# Altium integrated library NSC Amplifier.IntLib: 737 symbols (part 11 of 19)
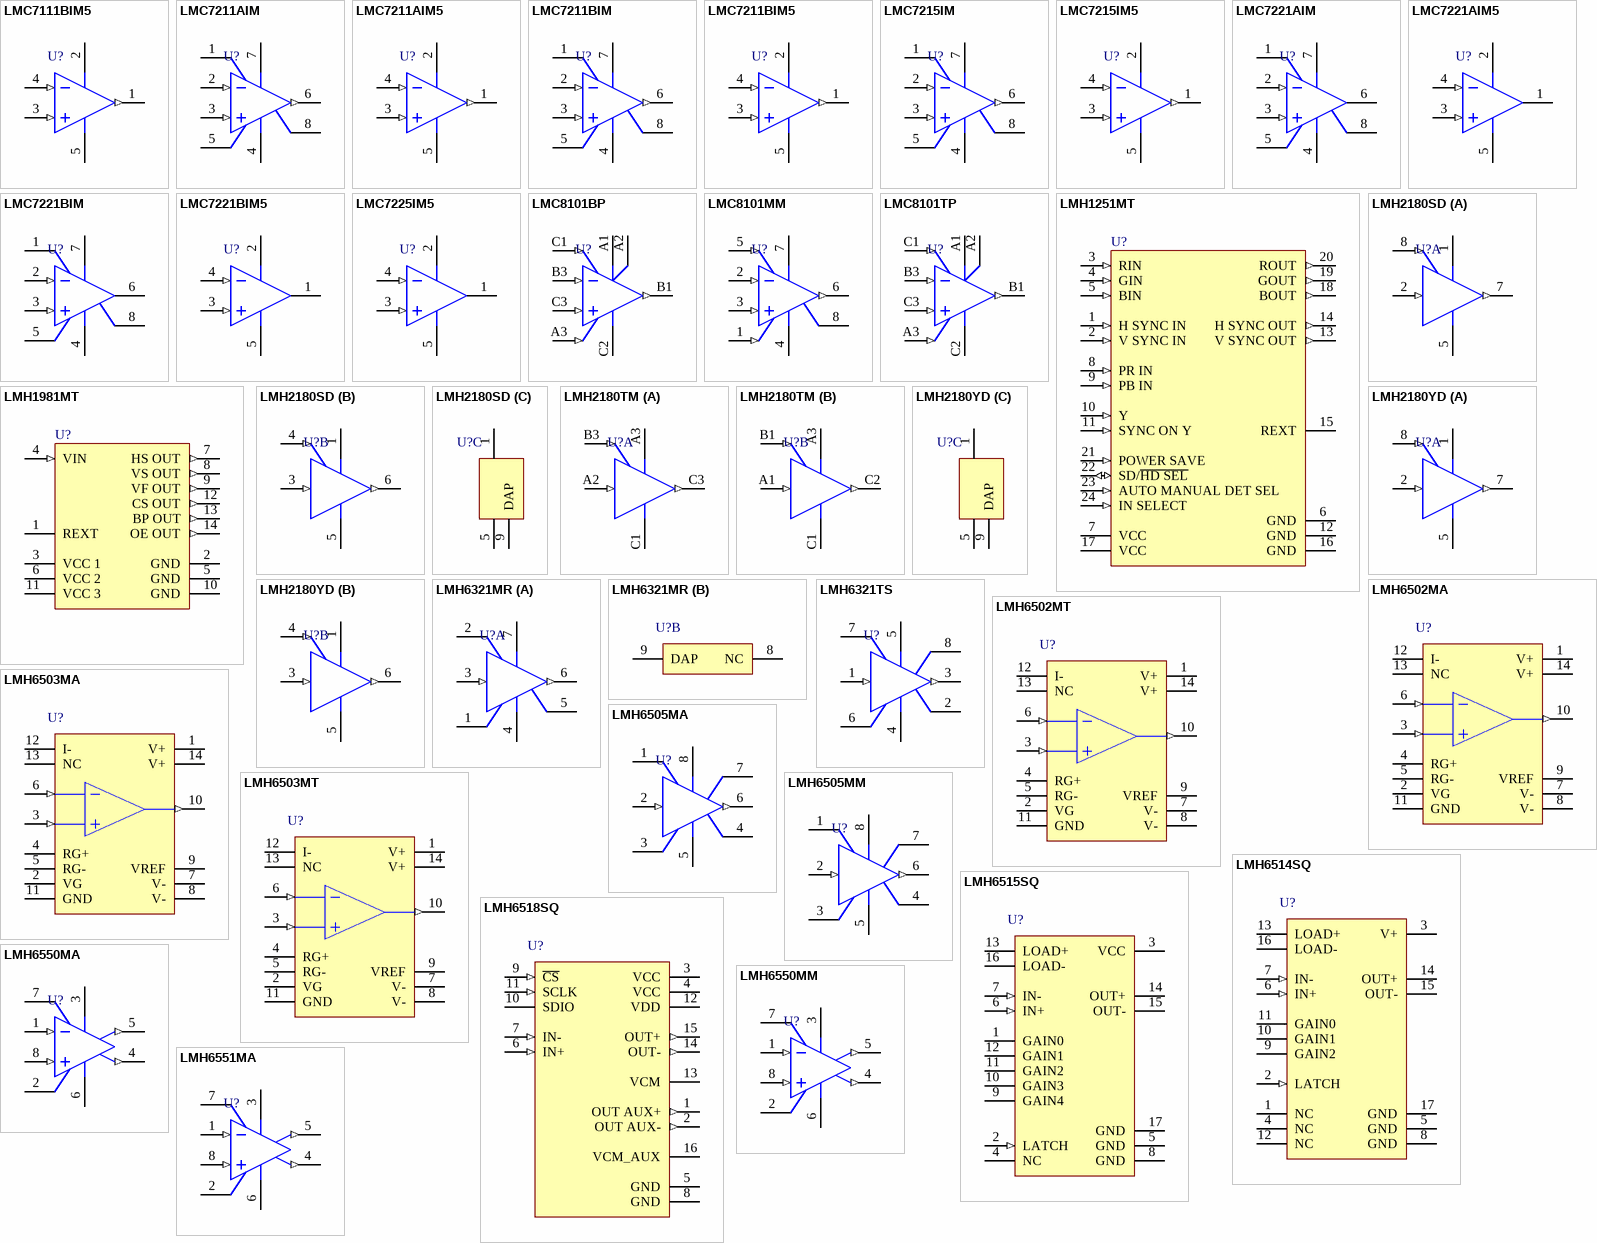
[diagram p49: symbols LMC7111BIM5 to LMH6551MA]

## LMC7221BIM
designator U?
Tiny CMOS Comparator with Rail-to-Rail Input and Open Drain Output; PartNumber: LMC7221BIM; Manufacturer: National Semiconductor; CompType: Amplifiers; PackageTopMarking: NSZXTT*LMC72*21BIM; PowerWise: N; Published: 4-Dec-2008; LatestRevisionDate: 13-Jan-2009; LatestRevisionNote: Sim Model Added.; DatasheetVersion: Sep-2006; PackageVersion: revL, Sep-2006; PackageReference: M08A; Publisher: Altium Limited; PackageDescription: SOIC Narrow, 4.9 x 3.9 x 1.45mm, 8 Lead, 1.27mm Pitch; RoHS: O; PinCount: 8; DigiKeyPartNumber: LMC7221BIM5CT-ND; Code_JEDEC: MS-012-AA; Code_IPC: SOIC127P600-8; ComponentLink1Description: LMC7221 Datasheet; ComponentLink1URL: http://www.national.com/ds/LM/LMC7221.pdf; ComponentLink2Description: LMC7221 Web Page; ComponentLink2URL: http://www.national.com/pf/LM/LMC7221.html; ComponentLink3Description: M08A Package Page; ComponentLink3URL: http://www.national.com/packaging/folders/m08a.html
footprint M08A_N (SOIC, 8-Leads, Body 4.9x3.9mm, Pitch 1.27mm, IPC Medium Density)
footprint M08A_L (SOIC, 8-Leads, Body 4.9x3.9mm, Pitch 1.27mm, IPC High Density)
footprint M08A_M (SOIC, 8-Leads, Body 4.9x3.9mm, Pitch 1.27mm, IPC Low Density)
simulation model LMC7221B (SUBCKT)
pins: 1 NC, 2 IN- (in), 3 IN+ (in), 4 V- (power), 5 NC, 6 OUT (oc), 7 V+ (power), 8 NC

## LMC7221BIM5
designator U?
Tiny CMOS Comparator with Rail-to-Rail Input and Open Drain Output; PartNumber: LMC7221BIM5; Manufacturer: National Semiconductor; CompType: Amplifiers; PackageTopMarking: C01B*XTT; PowerWise: N; Published: 4-Dec-2008; LatestRevisionDate: 13-Jan-2009; LatestRevisionNote: Sim Model Added.; DatasheetVersion: Sep-2006; PackageVersion: revD, Aug-2008; PackageReference: MF05A; Publisher: Altium Limited; PackageDescription: Molded SOT-23, .115 x .063 x .040 in Body, 5 Lead, .0375 in Pitch; RoHS: O; PinCount: 5; DigiKeyPartNumber: LMC7221BIM5CT-ND; Code_IPC: SOT23-5; ComponentLink1Description: LMC7221 Datasheet; ComponentLink1URL: http://www.national.com/ds/LM/LMC7221.pdf; ComponentLink2Description: LMC7221 Web Page; ComponentLink2URL: http://www.national.com/pf/LM/LMC7221.html; ComponentLink3Description: MF05A Package Page; ComponentLink3URL: http://www.national.com/packaging/folders/mf05a.html
footprint MF05A_N (SOT23, 5-Leads, Body 2.9x1.6mm, Pitch 0.95mm, Lead Span 2.8mm, IPC Medium Density)
footprint MF05A_L (SOT23, 5-Leads, Body 2.9x1.6mm, Pitch 0.95mm, Lead Span 2.8mm, IPC High Density)
footprint MF05A_M (SOT23, 5-Leads, Body 2.9x1.6mm, Pitch 0.95mm, Lead Span 2.8mm, IPC Low Density)
simulation model LMC7221B (SUBCKT)
pins: 1 OUT (oc), 2 V+ (power), 3 IN+ (in), 4 IN- (in), 5 V- (power)

## LMC7225IM5
designator U?
Micro-Power, Rail-to-Rail CMOS Comparators with Open-Drain/Push-Pull Outputs and TinyPak Package; PartNumber: LMC7225IM5; Manufacturer: National Semiconductor; CompType: Amplifiers; PackageTopMarking: C03B*XTT; PowerWise: Y; Published: 4-Dec-2008; LatestRevisionDate: 13-Jan-2009; LatestRevisionNote: Sim Model Added.; DatasheetVersion: Sep-2006; PackageVersion: revD, Aug-2008; PackageReference: MF05A; Publisher: Altium Limited; PackageDescription: Molded SOT-23, .115 x .063 x .040 in Body, 5 Lead, .0375 in Pitch; RoHS: O; PinCount: 5; DigiKeyPartNumber: LMC7225IM5CT-ND; Code_IPC: SOT23-5; ComponentLink1Description: LMC7225 Datasheet; ComponentLink1URL: http://www.national.com/ds/LM/LMC7225.pdf; ComponentLink2Description: LMC7225 Web Page; ComponentLink2URL: http://www.national.com/pf/LM/LMC7225.html; ComponentLink3Description: MF05A Package Page; ComponentLink3URL: http://www.national.com/packaging/folders/mf05a.html
footprint MF05A_N (SOT23, 5-Leads, Body 2.9x1.6mm, Pitch 0.95mm, Lead Span 2.8mm, IPC Medium Density)
footprint MF05A_L (SOT23, 5-Leads, Body 2.9x1.6mm, Pitch 0.95mm, Lead Span 2.8mm, IPC High Density)
footprint MF05A_M (SOT23, 5-Leads, Body 2.9x1.6mm, Pitch 0.95mm, Lead Span 2.8mm, IPC Low Density)
simulation model LMC7225 (SUBCKT)
pins: 1 OUT (oc), 2 V+ (power), 3 IN+ (in), 4 IN- (in), 5 V- (power)

## LMC8101BP
designator U?
Rail-to-Rail Input and Output, 2.7V Op Amp in micro SMD package with Shutdown; PartNumber: LMC8101BP; Manufacturer: National Semiconductor; CompType: Amplifiers; PackageTopMarking: XVA*I 2; Published: 4-Dec-2008; LatestRevisionDate: 13-Jan-2009; LatestRevisionNote: Sim Model Added.; DatasheetVersion: May-2004; PackageVersion: revC, Feb-2002; PackageReference: BPA08FFB; Publisher: Altium Limited; PackageDescription: Micro SMD, 8 Bump, 0.5mm Pitch; RoHS: N; PinCount: 8; DigiKeyPartNumber: LMC8101BPCT-ND; Code_JEDEC: MO-211-BC; ComponentLink1Description: LMC8101 Datasheet; ComponentLink1URL: http://www.national.com/ds/LM/LMC8101.pdf; ComponentLink2Description: LMC8101 Web Page; ComponentLink2URL: http://www.national.com/pf/LM/LMC8101.html; ComponentLink3Description: BPA08FFB Package Page; ComponentLink3URL: http://www.national.com/packaging/folders/bpa08ffb.html
footprint BPA08FFB (Micro SMD, 8-Leads, Body 1.41x1.41mm, Pitch 0.5mm, NSC Recommended)
simulation model LMC8101 (SUBCKT)
pins: A1 V+ (power), A2 V+ (power), A3 SL (in), B1 OUT (out), B3 IN- (in), C1 SD (in), C2 V- (power), C3 IN+ (in)

## LMC8101MM
designator U?
Rail-to-Rail Input and Output, 2.7V Op Amp in micro SMD package with Shutdown; PartNumber: LMC8101MM; Manufacturer: National Semiconductor; CompType: Amplifiers; PackageTopMarking: ZXTT*A11; PowerWise: N; Published: 4-Dec-2008; LatestRevisionDate: 13-Jan-2009; LatestRevisionNote: Sim Model Added.; DatasheetVersion: May-2004; PackageVersion: revF, Apr-2008; PackageReference: MUA08A; Publisher: Altium Limited; PackageDescription: MINI SOIC, .118 x .118 x .034in, 8 Lead, .0256in Pitch; RoHS: O; PinCount: 8; DigiKeyPartNumber: LMC8101MMCT-ND; Code_JEDEC: MO-187-AA; ComponentLink1Description: LMC8101 Datasheet; ComponentLink1URL: http://www.national.com/ds/LM/LMC8101.pdf; ComponentLink2Description: LMC8101 Web Page; ComponentLink2URL: http://www.national.com/pf/LM/LMC8101.html; ComponentLink3Description: MUA08A Package Page; ComponentLink3URL: http://www.national.com/packaging/folders/mua08a.html
footprint MUA08A_N (TSOP, 8-Leads, Body 3x3mm, Pitch 0.65mm, IPC Medium Density)
footprint MUA08A_L (TSOP, 8-Leads, Body 3x3mm, Pitch 0.65mm, IPC High Density)
footprint MUA08A_M (TSOP, 8-Leads, Body 3x3mm, Pitch 0.65mm, IPC Low Density)
simulation model LMC8101 (SUBCKT)
pins: 1 SL (in), 2 IN- (in), 3 IN+ (in), 4 V- (power), 5 SD (in), 6 OUT (out), 7 V+ (power), 8 NC

## LMC8101TP
designator U?
Rail-to-Rail Input and Output, 2.7V Op Amp in micro SMD package with Shutdown; PartNumber: LMC8101TP; Manufacturer: National Semiconductor; CompType: Amplifiers; PackageTopMarking: XVA*I 08; PowerWise: N; Published: 4-Dec-2008; LatestRevisionDate: 13-Jan-2009; LatestRevisionNote: Sim Model Added.; DatasheetVersion: May-2004; PackageVersion: revA, Mar-2002; PackageReference: TPA08FFA; Publisher: Altium Limited; PackageDescription: Thin Micro SMD, 8 Bump, 0.5mm Pitch; RoHS: Y; PinCount: 8; DigiKeyPartNumber: LMC8101TPCT-ND; Code_JEDEC: MO-211-BC; ComponentLink1Description: LMC8101 Datasheet; ComponentLink1URL: http://www.national.com/ds/LM/LMC8101.pdf; ComponentLink2Description: LMC8101 Web Page; ComponentLink2URL: http://www.national.com/pf/LM/LMC8101.html; ComponentLink3Description: TPA08FFA Package Page; ComponentLink3URL: http://www.national.com/packaging/folders/tpa08ffa.html
footprint TPA08FFA (Micro SMD, 8-Leads, Body 1.41x1.41mm, Pitch 0.5mm, NSC Recommended)
simulation model LMC8101 (SUBCKT)
pins: A1 V+ (power), A2 V+ (power), A3 SL (in), B1 OUT (out), B3 IN- (in), C1 SD (in), C2 V- (power), C3 IN+ (in)

## LMH1251MT
designator U?
YPBPR to RGBHV Converter and 2:1 Video Switch; PartNumber: LMH1251MT; Manufacturer: National Semiconductor; CompType: Amplifiers; PackageTopMarking: NSUZXYTT*LMH1251*MT; PowerWise: N; Published: 4-Dec-2008; DatasheetVersion: Jul-2008; PackageVersion: revE, Mar-2003; PackageReference: MTC24; Publisher: Altium Limited; PackageDescription: Molded TSSOP, Jedec, 7.8 x 4.4 x 0.9mm Body, 24 Lead, 0.65mm Pitch; RoHS: O; PinCount: 24; DigiKeyPartNumber: LMH1251MT-ND; Code_JEDEC: MO-153-AD; ComponentLink1Description: LMH1251 Datasheet; ComponentLink1URL: http://www.national.com/ds/LM/LMH1251.pdf; ComponentLink2Description: LMH1251 Web Page; ComponentLink2URL: http://www.national.com/pf/LM/LMH1251.html; ComponentLink3Description: MTC24 Package Page; ComponentLink3URL: http://www.national.com/packaging/folders/mtc24.html
footprint MTC24_N (TSOP, 24-Leads, Body 7.8x4.4mm, Pitch 0.65mm, IPC Medium Density)
footprint MTC24_L (TSOP, 24-Leads, Body 7.8x4.4mm, Pitch 0.65mm, IPC High Density)
footprint MTC24_M (TSOP, 24-Leads, Body 7.8x4.4mm, Pitch 0.65mm, IPC Low Density)
pins: 1 H SYNC IN (in), 2 V SYNC IN (in), 3 RIN (in), 4 GIN (in), 5 BIN (in), 6 GND (power), 7 VCC (power), 8 PR IN (in), 9 PB IN (in), 10 Y (in), 11 SYNC ON Y (in), 12 GND (power), 13 V SYNC OUT (out), 14 H SYNC OUT (out), 15 REXT, 16 GND (power), 17 VCC (power), 18 BOUT (out), 19 GOUT (out), 20 ROUT (out), 21 POWER SAVE (in), 22 SD/~{HD SEL} (io), 23 AUTO MANUAL DET SEL (in), 24 IN SELECT (in)

## LMH1981MT
designator U?
Multi-Format Video Sync Separator; PartNumber: LMH1981MT; Manufacturer: National Semiconductor; CompType: Amplifiers; PackageTopMarking: NSUZXYTT*LMH19*81MT; PowerWise: N; Published: 4-Dec-2008; DatasheetVersion: Jul-2007; PackageVersion: revD, Jun-2003; PackageReference: MTC14; Publisher: Altium Limited; PackageDescription: Molded TSSOP, JEDEC, 5 x 4.4 x 0.9mm Body, 14 Lead, 0.65mm Pitch; RoHS: Y; PinCount: 14; DigiKeyPartNumber: LMH1981MT-ND; Code_JEDEC: MO-153-AB-1; ComponentLink1Description: LMH1981 Datasheet; ComponentLink1URL: http://www.national.com/ds/LM/LMH1981.pdf; ComponentLink2Description: LMH1981 Web Page; ComponentLink2URL: http://www.national.com/pf/LM/LMH1981.html; ComponentLink3Description: MTC14 Package Page; ComponentLink3URL: http://www.national.com/packaging/folders/mtc14.html
footprint MTC14_N (TSOP, 14-Leads, Body 5x4.4mm, Pitch 0.65mm, IPC Medium Density)
footprint MTC14_L (TSOP, 14-Leads, Body 5x4.4mm, Pitch 0.65mm, IPC High Density)
footprint MTC14_M (TSOP, 14-Leads, Body 5x4.4mm, Pitch 0.65mm, IPC Low Density)
pins: 1 REXT, 2 GND (power), 3 VCC 1 (power), 4 VIN (in), 5 GND (power), 6 VCC 2 (power), 7 HS OUT (out), 8 VS OUT (out), 9 VF OUT (out), 10 GND (power), 11 VCC 3 (power), 12 CS OUT (out), 13 BP OUT (out), 14 OE OUT (out)

## LMH2180SD
designator U?
75 MHz Dual Clock Buffer; PartNumber: LMH2180SD; Manufacturer: National Semiconductor; CompType: Amplifiers; PackageTopMarking: ZXYTT*2180S; PowerWise: N; Published: 4-Dec-2008; DatasheetVersion: Aug-2008; PackageVersion: revA, Aug-2003; PackageReference: SDA08A; Publisher: Altium Limited; PackageDescription: LLP, Plastic, Dual, 3 x 3 x 0.8mm Body, 8 Lead, 0.5mm Pitch, No Pullback; RoHS: Y; PinCount: 8; DigiKeyPartNumber: LMH2180SDEVAL-ND; ComponentLink1Description: LMH2180 Datasheet; ComponentLink1URL: http://www.national.com/ds/LM/LMH2180.pdf; ComponentLink2Description: LMH2180 Web Page; ComponentLink2URL: http://www.national.com/pf/LM/LMH2180.html; ComponentLink3Description: SDA08A Package Page; ComponentLink3URL: http://www.national.com/packaging/folders/sda08a.html
footprint SDA08A (SON, 8-Leads, Body 3x3mm, Pitch 0.5mm, NSC Recommended)
pins on every part: 1 VDD (power), 5 VSS (power)
part A pins: 2 IN1 (in), 7 OUT1 (out), 8 EN1 (in)
part B pins: 3 IN2 (in), 4 EN2 (in), 6 OUT2 (out)
part C pins: 9 DAP

## LMH2180TM
designator U?
75 MHz Dual Clock Buffer; PartNumber: LMH2180TM; Manufacturer: National Semiconductor; CompType: Amplifiers; PackageTopMarking: XVA*I A; PowerWise: N; Published: 4-Dec-2008; DatasheetVersion: Aug-2008; PackageVersion: revA; PackageReference: TMD08CCA; Publisher: Altium Limited; PackageDescription: Thin Micro SMD, 8 Bump, 0.4mm Pitch; RoHS: Y; PinCount: 8; ComponentLink1Description: LMH2180 Datasheet; ComponentLink1URL: http://www.national.com/ds/LM/LMH2180.pdf; ComponentLink2Description: LMH2180 Web Page; ComponentLink2URL: http://www.national.com/pf/LM/LMH2180.html; ComponentLink3Description: TMD08CCA Package Page; ComponentLink3URL: http://www.national.com/packaging/folders/tmd08cca.html
footprint TMD08CCA (Micro SMD, 8-Leads, Body 1.22x1.22mm, Pitch 0.4mm, NSC Recommended)
pins on every part: A3 VDD (power), C1 VSS (power)
part A pins: A2 IN1 (in), B3 EN1 (in), C3 OUT1 (out)
part B pins: A1 IN2 (in), B1 EN2 (in), C2 OUT2 (out)

## LMH2180YD
designator U?
75 MHz Dual Clock Buffer; PartNumber: LMH2180YD; Manufacturer: National Semiconductor; CompType: Amplifiers; PackageTopMarking: ZXYTT*2180Y; PowerWise: N; Published: 4-Dec-2008; DatasheetVersion: Aug-2008; PackageVersion: revB, Jun-2005; PackageReference: YDA08A; Publisher: Altium Limited; PackageDescription: LLP, Plastic, Dual, 3 x 3 x 0.8mm, 8 Lead, 0.5mm Pitch, Solder Bump; RoHS: Y; PinCount: 8; DigiKeyPartNumber: LMH2180YD-ND; ComponentLink1Description: LMH2180 Datasheet; ComponentLink1URL: http://www.national.com/ds/LM/LMH2180.pdf; ComponentLink2Description: LMH2180 Web Page; ComponentLink2URL: http://www.national.com/pf/LM/LMH2180.html; ComponentLink3Description: YDA08A Package Page; ComponentLink3URL: http://www.national.com/packaging/folders/yda08a.html
footprint YDA08A (PSON, 8-Leads, Body 3x3mm, Pitch 0.5mm, NSC Recommended)
pins on every part: 1 VDD (power), 5 VSS (power)
part A pins: 2 IN1 (in), 7 OUT1 (out), 8 EN1 (in)
part B pins: 3 IN2 (in), 4 EN2 (in), 6 OUT2 (out)
part C pins: 9 DAP

## LMH6321MR
designator U?
300 mA High Speed Buffer with Adjustable Current Limit; PartNumber: LMH6321MR; Manufacturer: National Semiconductor; CompType: Amplifiers; PackageTopMarking: NSXYTT*LMH63*21MR; PowerWise: N; Published: 4-Dec-2008; LatestRevisionDate: 13-Jan-2009; LatestRevisionNote: Sim Model Added.; DatasheetVersion: Apr-2007; PackageVersion: revD, Dec-2007; PackageReference: MRA08A; Publisher: Altium Limited; PackageDescription: Molded, PSOP .193 x .154 x .058in, 8 Lead, .050in Pitch; RoHS: Y; PinCount: 8; DigiKeyPartNumber: LMH6321MR-ND; Code_JEDEC: MS-012-AA; ComponentLink1Description: LMH6321 Datasheet; ComponentLink1URL: http://www.national.com/ds/LM/LMH6321.pdf; ComponentLink2Description: LMH6321 Web Page; ComponentLink2URL: http://www.national.com/pf/LM/LMH6321.html; ComponentLink3Description: MRA08A Package Page; ComponentLink3URL: http://www.national.com/packaging/folders/mra08a.html
footprint MRA08A_N (SOIC, 8-Leads, Body 4.9x3.9mm, Pitch 1.27mm, Exposed Pad, IPC Medium Density)
footprint MRA08A_L (SOIC, 8-Leads, Body 4.9x3.9mm, Pitch 1.27mm, Exposed Pad, IPC High Density)
footprint MRA08A_M (SOIC, 8-Leads, Body 4.9x3.9mm, Pitch 1.27mm, Exposed Pad, IPC Low Density)
simulation model LMH6321 (SUBCKT)
part A pins: 1 EF, 2 CL, 3 IN (in), 4 V- (power), 5 GND (power), 6 OUT (out), 7 V+ (power)
part B pins: 8 NC, 9 DAP

## LMH6321TS
designator U?
300 mA High Speed Buffer with Adjustable Current Limit; PartNumber: LMH6321TS; Manufacturer: National Semiconductor; CompType: Amplifiers; PackageTopMarking: NSUZXYTTE#*LMH6321TS; PowerWise: N; Published: 4-Dec-2008; LatestRevisionDate: 30-Oct-2009; LatestRevisionNote: Pin 8 name changed from DAP to TAB.; DatasheetVersion: Apr-2007; PackageVersion: revE, Jul-2003; PackageReference: TS7B; Publisher: Altium Limited; PackageDescription: TO-263, Molded, .400 x .390 x .180in Body, 7 Lead, .050in Pitch, Surface Mount; RoHS: Y; PinCount: 7; DigiKeyPartNumber: LMH6321TS-ND; Code_JEDEC: MO-169-AC; ComponentLink1Description: LMH6321 Datasheet; ComponentLink1URL: http://www.national.com/ds/LM/LMH6321.pdf; ComponentLink2Description: LMH6321 Web Page; ComponentLink2URL: http://www.national.com/pf/LM/LMH6321.html; ComponentLink3Description: TS7B Package Page; ComponentLink3URL: http://www.national.com/packaging/folders/ts7b.html
footprint TS7B_N (D2-PAK, 8-Leads, Body 8.6x10.2mm, Pitch 1.27mm, Lead Span 14.1mm, IPC Medium Density)
footprint TS7B_L (D2-PAK, 8-Leads, Body 8.6x10.2mm, Pitch 1.27mm, Lead Span 14.1mm, IPC High Density)
footprint TS7B_M (D2-PAK, 8-Leads, Body 8.6x10.2mm, Pitch 1.27mm, Lead Span 14.1mm, IPC Low Density)
simulation model LMH6321 (SUBCKT)
pins: 1 IN (in), 2 GND (power), 3 OUT (out), 4 V- (power), 5 V+ (power), 6 EF, 7 CL, 8 TAB

## LMH6502MA
designator U?
Wideband, Low Power, Linear-in-dB Variable Gain Amplifier; PartNumber: LMH6502MA; Manufacturer: National Semiconductor; CompType: Amplifiers; PackageTopMarking: NSUZXYTT*LMH6502MA; PowerWise: N; Published: 4-Dec-2008; LatestRevisionDate: 13-Jan-2009; LatestRevisionNote: Sim Model Added.; DatasheetVersion: Jun-2004; PackageVersion: revJ, Jan-1996; PackageReference: M14A; Publisher: Altium Limited; PackageDescription: Molded Package S.O., .150in Wide, 14 Lead; RoHS: O; PinCount: 14; DigiKeyPartNumber: LMH6502MA-ND; Code_JEDEC: MS-012AB; Code_IPC: SOIC127P600-14; ComponentLink1Description: LMH6502 Datasheet; ComponentLink1URL: http://www.national.com/ds/LM/LMH6502.pdf; ComponentLink2Description: LMH6502 Web Page; ComponentLink2URL: http://www.national.com/pf/LM/LMH6502.html; ComponentLink3Description: M14A Package Page; ComponentLink3URL: http://www.national.com/packaging/folders/m14a.html
footprint M14A_N (SOIC, 14-Leads, Body 8.6x3.9mm, Pitch 1.27mm, IPC Medium Density)
footprint M14A_L (SOIC, 14-Leads, Body 8.6x3.9mm, Pitch 1.27mm, IPC High Density)
footprint M14A_M (SOIC, 14-Leads, Body 8.6x3.9mm, Pitch 1.27mm, IPC Low Density)
simulation model LMH6502 (SUBCKT)
pins: 1 V+ (power), 2 VG, 3 VIN+ (in), 4 RG+, 5 RG-, 6 VIN- (in), 7 V- (power), 8 V- (power), 9 VREF, 10 VOUT (out), 11 GND (power), 12 I-, 13 NC, 14 V+ (power)

## LMH6502MT
designator U?
Wideband, Low Power, Linear-in-dB Variable Gain Amplifier; PartNumber: LMH6502MT; Manufacturer: National Semiconductor; CompType: Amplifiers; PackageTopMarking: NSUZXYTT*LMH65*02MT; PowerWise: N; Published: 4-Dec-2008; LatestRevisionDate: 13-Jan-2009; LatestRevisionNote: Sim Model Added.; DatasheetVersion: Jun-2004; PackageVersion: revD, Jun-2003; PackageReference: MTC14; Publisher: Altium Limited; PackageDescription: Molded TSSOP, JEDEC, 5 x 4.4 x 0.9mm Body, 14 Lead, 0.65mm Pitch; RoHS: Y; PinCount: 14; DigiKeyPartNumber: LMH6502MT-ND; Code_JEDEC: MO-153-AB-1; ComponentLink1Description: LMH6502 Datasheet; ComponentLink1URL: http://www.national.com/ds/LM/LMH6502.pdf; ComponentLink2Description: LMH6502 Web Page; ComponentLink2URL: http://www.national.com/pf/LM/LMH6502.html; ComponentLink3Description: MTC14 Package Page; ComponentLink3URL: http://www.national.com/packaging/folders/mtc14.html
footprint MTC14_N (TSOP, 14-Leads, Body 5x4.4mm, Pitch 0.65mm, IPC Medium Density)
footprint MTC14_L (TSOP, 14-Leads, Body 5x4.4mm, Pitch 0.65mm, IPC High Density)
footprint MTC14_M (TSOP, 14-Leads, Body 5x4.4mm, Pitch 0.65mm, IPC Low Density)
simulation model LMH6502 (SUBCKT)
pins: 1 V+ (power), 2 VG, 3 VIN+ (in), 4 RG+, 5 RG-, 6 VIN- (in), 7 V- (power), 8 V- (power), 9 VREF, 10 VOUT (out), 11 GND (power), 12 I-, 13 NC, 14 V+ (power)

## LMH6503MA
designator U?
Wideband, Low Power, Linear Variable Gain Amplifier; PartNumber: LMH6503MA; Manufacturer: National Semiconductor; CompType: Amplifiers; PackageTopMarking: NSUZXYTT*LMH6503MA; PowerWise: N; Published: 4-Dec-2008; LatestRevisionDate: 13-Jan-2009; LatestRevisionNote: Sim Model Added.; DatasheetVersion: Jun-2004; PackageVersion: revJ, Jan-1996; PackageReference: M14A; Publisher: Altium Limited; PackageDescription: Molded Package S.O., .150in Wide, 14 Lead; RoHS: O; PinCount: 14; DigiKeyPartNumber: LMH6503MA-ND; Code_JEDEC: MS-012AB; Code_IPC: SOIC127P600-14; ComponentLink1Description: LMH6503 Datasheet; ComponentLink1URL: http://www.national.com/ds/LM/LMH6503.pdf; ComponentLink2Description: LMH6503 Web Page; ComponentLink2URL: http://www.national.com/pf/LM/LMH6503.html; ComponentLink3Description: M14A Package Page; ComponentLink3URL: http://www.national.com/packaging/folders/m14a.html
footprint M14A_N (SOIC, 14-Leads, Body 8.6x3.9mm, Pitch 1.27mm, IPC Medium Density)
footprint M14A_L (SOIC, 14-Leads, Body 8.6x3.9mm, Pitch 1.27mm, IPC High Density)
footprint M14A_M (SOIC, 14-Leads, Body 8.6x3.9mm, Pitch 1.27mm, IPC Low Density)
simulation model LMH6503 (SUBCKT)
pins: 1 V+ (power), 2 VG, 3 VIN+ (in), 4 RG+, 5 RG-, 6 VIN- (in), 7 V- (power), 8 V- (power), 9 VREF, 10 VOUT (out), 11 GND (power), 12 I-, 13 NC, 14 V+ (power)

## LMH6503MT
designator U?
Wideband, Low Power, Linear Variable Gain Amplifier; PartNumber: LMH6503MT; Manufacturer: National Semiconductor; CompType: Amplifiers; PackageTopMarking: NSUZXYTT*LMH65*03MT; PowerWise: N; Published: 4-Dec-2008; LatestRevisionDate: 13-Jan-2009; LatestRevisionNote: Sim Model Added.; DatasheetVersion: Jun-2004; PackageVersion: revD, Jun-2003; PackageReference: MTC14; Publisher: Altium Limited; PackageDescription: Molded TSSOP, JEDEC, 5 x 4.4 x 0.9mm Body, 14 Lead, 0.65mm Pitch; RoHS: Y; PinCount: 14; DigiKeyPartNumber: LMH6503MT-ND; Code_JEDEC: MO-153-AB-1; ComponentLink1Description: LMH6503 Datasheet; ComponentLink1URL: http://www.national.com/ds/LM/LMH6503.pdf; ComponentLink2Description: LMH6503 Web Page; ComponentLink2URL: http://www.national.com/pf/LM/LMH6503.html; ComponentLink3Description: MTC14 Package Page; ComponentLink3URL: http://www.national.com/packaging/folders/mtc14.html
footprint MTC14_N (TSOP, 14-Leads, Body 5x4.4mm, Pitch 0.65mm, IPC Medium Density)
footprint MTC14_L (TSOP, 14-Leads, Body 5x4.4mm, Pitch 0.65mm, IPC High Density)
footprint MTC14_M (TSOP, 14-Leads, Body 5x4.4mm, Pitch 0.65mm, IPC Low Density)
simulation model LMH6503 (SUBCKT)
pins: 1 V+ (power), 2 VG, 3 VIN+ (in), 4 RG+, 5 RG-, 6 VIN- (in), 7 V- (power), 8 V- (power), 9 VREF, 10 VOUT (out), 11 GND (power), 12 I-, 13 NC, 14 V+ (power)

## LMH6505MA
designator U?
Wideband, Low Power, Linear-in-dB, Variable Gain Amplifier; PartNumber: LMH6505MA; Manufacturer: National Semiconductor; CompType: Amplifiers; PackageTopMarking: NSZXTT*LMH65*05MA; PowerWise: Y; Published: 4-Dec-2008; LatestRevisionDate: 13-Jan-2009; LatestRevisionNote: Sim Model Added.; DatasheetVersion: Dec-2007; PackageVersion: revL, Sep-2006; PackageReference: M08A; Publisher: Altium Limited; PackageDescription: SOIC Narrow, 4.9 x 3.9 x 1.45mm, 8 Lead, 1.27mm Pitch; RoHS: Y; PinCount: 8; DigiKeyPartNumber: LMH6505MA-ND; Code_JEDEC: MS-012-AA; Code_IPC: SOIC127P600-8; ComponentLink1Description: LMH6505 Datasheet; ComponentLink1URL: http://www.national.com/ds/LM/LMH6505.pdf; ComponentLink2Description: LMH6505 Web Page; ComponentLink2URL: http://www.national.com/pf/LM/LMH6505.html; ComponentLink3Description: M08A Package Page; ComponentLink3URL: http://www.national.com/packaging/folders/m08a.html
footprint M08A_N (SOIC, 8-Leads, Body 4.9x3.9mm, Pitch 1.27mm, IPC Medium Density)
footprint M08A_L (SOIC, 8-Leads, Body 4.9x3.9mm, Pitch 1.27mm, IPC High Density)
footprint M08A_M (SOIC, 8-Leads, Body 4.9x3.9mm, Pitch 1.27mm, IPC Low Density)
simulation model LMH6505 (SUBCKT)
pins: 1 VG, 2 VIN (in), 3 RG, 4 GND (power), 5 V- (power), 6 VOUT (out), 7 I-, 8 V+ (power)

## LMH6505MM
designator U?
Wideband, Low Power, Linear-in-dB, Variable Gain Amplifier; PartNumber: LMH6505MM; Manufacturer: National Semiconductor; CompType: Amplifiers; PackageTopMarking: ZXTT*AZ2A; PowerWise: Y; Published: 4-Dec-2008; LatestRevisionDate: 13-Jan-2009; LatestRevisionNote: Sim Model Added.; DatasheetVersion: Dec-2007; PackageVersion: revF, Apr-2008; PackageReference: MUA08A; Publisher: Altium Limited; PackageDescription: MINI SOIC, .118 x .118 x .034in, 8 Lead, .0256in Pitch; RoHS: Y; PinCount: 8; DigiKeyPartNumber: LMH6505MMCT-ND; Code_JEDEC: MO-187-AA; ComponentLink1Description: LMH6505 Datasheet; ComponentLink1URL: http://www.national.com/ds/LM/LMH6505.pdf; ComponentLink2Description: LMH6505 Web Page; ComponentLink2URL: http://www.national.com/pf/LM/LMH6505.html; ComponentLink3Description: MUA08A Package Page; ComponentLink3URL: http://www.national.com/packaging/folders/mua08a.html
footprint MUA08A_N (TSOP, 8-Leads, Body 3x3mm, Pitch 0.65mm, IPC Medium Density)
footprint MUA08A_L (TSOP, 8-Leads, Body 3x3mm, Pitch 0.65mm, IPC High Density)
footprint MUA08A_M (TSOP, 8-Leads, Body 3x3mm, Pitch 0.65mm, IPC Low Density)
simulation model LMH6505 (SUBCKT)
pins: 1 VG, 2 VIN (in), 3 RG, 4 GND (power), 5 V- (power), 6 VOUT (out), 7 I-, 8 V+ (power)

## LMH6514SQ
designator U?
600 MHz, Digital Controlled, Variable Gain Amplifier; PartNumber: LMH6514SQ; Manufacturer: National Semiconductor; CompType: Amplifiers; PackageTopMarking: NS*UZXYTT*L6514SQ; PowerWise: Y; Published: 4-Dec-2008; DatasheetVersion: Jan-2008; PackageVersion: revA, Oct-2003; PackageReference: SQA16A; Publisher: Altium Limited; PackageDescription: LLP, Plastic, Quad, 4 x 4 x 0.8mm Body, 16 Lead, 0.5mm Pitch, No Pullback; RoHS: Y; PinCount: 16; DigiKeyPartNumber: LMH6514SQE-ND; ComponentLink1Description: LMH6514 Datasheet; ComponentLink1URL: http://www.national.com/ds/LM/LMH6514.pdf; ComponentLink2Description: LMH6514 Web Page; ComponentLink2URL: http://www.national.com/pf/LM/LMH6514.html; ComponentLink3Description: SQA16A Package Page; ComponentLink3URL: http://www.national.com/packaging/folders/sqa16a.html
footprint SQA16A (QFN, 16-Leads, Body 4x4mm, Pitch 0.5mm, NSC Recommended)
pins: 1 NC, 2 LATCH (in), 3 V+ (power), 4 NC, 5 GND (power), 6 IN+ (in), 7 IN- (in), 8 GND (power), 9 GAIN2, 10 GAIN1, 11 GAIN0, 12 NC, 13 LOAD+, 14 OUT+ (oc), 15 OUT- (oc), 16 LOAD-, 17 GND (power)

## LMH6515SQ
designator U?
600 MHz, Digital Controlled, Variable Gain Amplifier; PartNumber: LMH6515SQ; Manufacturer: National Semiconductor; CompType: Amplifiers; PackageTopMarking: NS*UZXYTT*L6515SQ; PowerWise: Y; Published: 4-Dec-2008; LatestRevisionDate: 30-Oct-2009; LatestRevisionNote: Single Op Amp replaced with Dual Op Amp.; DatasheetVersion: Oct-2007; PackageVersion: revA, Oct-2003; PackageReference: SQA16A; Publisher: Altium Limited; PackageDescription: LLP, Plastic, Quad, 4 x 4 x 0.8mm Body, 16 Lead, 0.5mm Pitch, No Pullback; RoHS: Y; PinCount: 16; DigiKeyPartNumber: LMH6515SQCT-ND; ComponentLink1Description: LMH6515 Datasheet; ComponentLink1URL: http://www.national.com/ds/LM/LMH6515.pdf; ComponentLink2Description: LMH6515 Web Page; ComponentLink2URL: http://www.national.com/pf/LM/LMH6515.html; ComponentLink3Description: SQA16A Package Page; ComponentLink3URL: http://www.national.com/packaging/folders/sqa16a.html
footprint SQA16A (QFN, 16-Leads, Body 4x4mm, Pitch 0.5mm, NSC Recommended)
pins: 1 GAIN0, 2 LATCH (in), 3 VCC (power), 4 NC, 5 GND (power), 6 IN+ (in), 7 IN- (in), 8 GND (power), 9 GAIN4, 10 GAIN3, 11 GAIN2, 12 GAIN1, 13 LOAD+, 14 OUT+ (oc), 15 OUT- (oc), 16 LOAD-, 17 GND (power)

## LMH6518SQ
designator U?
900 MHz, Digitally Controlled, Variable Gain Amplifier; PartNumber: LMH6518; Manufacturer: National Semiconductor; CompType: Amplifiers; PackageTopMarking: NS*UZXYTT*L6518SQ; PowerWise: Y; Published: 4-Dec-2008; DatasheetVersion: Oct-2008; PackageVersion: revA, Oct-2003; PackageReference: SQA16A; Publisher: Altium Limited; PackageDescription: LLP, Plastic, Quad, 4 x 4 x 0.8mm Body, 16 Lead, 0.5mm Pitch, No Pullback; RoHS: Y; PinCount: 16; ComponentLink1Description: LMH6518 Datasheet; ComponentLink1URL: http://www.national.com/ds/LM/LMH6518.pdf; ComponentLink2Description: LMH6518 Web Page; ComponentLink2URL: http://www.national.com/pf/LM/LMH6518.html; ComponentLink3Description: SQA16A Package Page; ComponentLink3URL: http://www.national.com/packaging/folders/sqa16a.html
footprint SQA16A (QFN, 16-Leads, Body 4x4mm, Pitch 0.5mm, NSC Recommended)
pins: 1 OUT AUX+ (out), 2 OUT AUX- (out), 3 VCC (power), 4 VCC (power), 5 GND (power), 6 IN+ (in), 7 IN- (in), 8 GND (power), 9 ~{CS} (in), 10 SDIO (hiz), 11 SCLK (in), 12 VDD (power), 13 VCM, 14 OUT- (out), 15 OUT+ (out), 16 VCM_AUX

## LMH6550MA
designator U?
Differential, High Speed Op Amp; PartNumber: LMH6550MA; Manufacturer: National Semiconductor; CompType: Amplifiers; PackageTopMarking: NSZXTT*LMH65*50MA; PowerWise: Y; Published: 4-Dec-2008; LatestRevisionDate: 13-Jan-2009; LatestRevisionNote: Sim Model Added.; DatasheetVersion: May-2006; PackageVersion: revL, Sep-2006; PackageReference: M08A; Publisher: Altium Limited; PackageDescription: SOIC Narrow, 4.9 x 3.9 x 1.45mm, 8 Lead, 1.27mm Pitch; RoHS: O; PinCount: 8; DigiKeyPartNumber: LMH6550MA-ND; Code_JEDEC: MS-012-AA; Code_IPC: SOIC127P600-8; ComponentLink1Description: LMH6550 Datasheet; ComponentLink1URL: http://www.national.com/ds/LM/LMH6550.pdf; ComponentLink2Description: LMH6550 Web Page; ComponentLink2URL: http://www.national.com/pf/LM/LMH6550.html; ComponentLink3Description: M08A Package Page; ComponentLink3URL: http://www.national.com/packaging/folders/m08a.html
footprint M08A_N (SOIC, 8-Leads, Body 4.9x3.9mm, Pitch 1.27mm, IPC Medium Density)
footprint M08A_L (SOIC, 8-Leads, Body 4.9x3.9mm, Pitch 1.27mm, IPC High Density)
footprint M08A_M (SOIC, 8-Leads, Body 4.9x3.9mm, Pitch 1.27mm, IPC Low Density)
simulation model LMH6550 (SUBCKT)
pins: 1 IN- (in), 2 VCM, 3 V+ (power), 4 OUT+ (out), 5 OUT- (out), 6 V- (power), 7 EN, 8 IN+ (in)

## LMH6550MM
designator U?
Differential, High Speed Op Amp; PartNumber: LMH6550MM; Manufacturer: National Semiconductor; CompType: Amplifiers; PackageTopMarking: ZXTT*AL1A; PowerWise: Y; Published: 4-Dec-2008; LatestRevisionDate: 13-Jan-2009; LatestRevisionNote: Sim Model Added.; DatasheetVersion: May-2006; PackageVersion: revF, Apr-2008; PackageReference: MUA08A; Publisher: Altium Limited; PackageDescription: MINI SOIC, .118 x .118 x .034in, 8 Lead, .0256in Pitch; RoHS: Y; PinCount: 8; DigiKeyPartNumber: LMH6550MMCT-ND; Code_JEDEC: MO-187-AA; ComponentLink1Description: LMH6550 Datasheet; ComponentLink1URL: http://www.national.com/ds/LM/LMH6550.pdf; ComponentLink2Description: LMH6550 Web Page; ComponentLink2URL: http://www.national.com/pf/LM/LMH6550.html; ComponentLink3Description: MUA08A Package Page; ComponentLink3URL: http://www.national.com/packaging/folders/mua08a.html
footprint MUA08A_N (TSOP, 8-Leads, Body 3x3mm, Pitch 0.65mm, IPC Medium Density)
footprint MUA08A_L (TSOP, 8-Leads, Body 3x3mm, Pitch 0.65mm, IPC High Density)
footprint MUA08A_M (TSOP, 8-Leads, Body 3x3mm, Pitch 0.65mm, IPC Low Density)
simulation model LMH6550 (SUBCKT)
pins: 1 IN- (in), 2 VCM, 3 V+ (power), 4 OUT+ (out), 5 OUT- (out), 6 V- (power), 7 EN, 8 IN+ (in)

## LMH6551MA
designator U?
Differential, High Speed Op Amp; PartNumber: LMH6551MA; Manufacturer: National Semiconductor; CompType: Amplifiers; PackageTopMarking: NSZXTT*LMH65*51MA; PowerWise: Y; Published: 4-Dec-2008; LatestRevisionDate: 13-Jan-2009; LatestRevisionNote: Sim Model Added.; DatasheetVersion: Feb-2005; PackageVersion: revL, Sep-2006; PackageReference: M08A; Publisher: Altium Limited; PackageDescription: SOIC Narrow, 4.9 x 3.9 x 1.45mm, 8 Lead, 1.27mm Pitch; RoHS: Y; PinCount: 8; DigiKeyPartNumber: LMH6551MA-ND; Code_JEDEC: MS-012-AA; Code_IPC: SOIC127P600-8; ComponentLink1Description: LMH6551 Datasheet; ComponentLink1URL: http://www.national.com/ds/LM/LMH6551.pdf; ComponentLink2Description: LMH6551 Web Page; ComponentLink2URL: http://www.national.com/pf/LM/LMH6551.html; ComponentLink3Description: M08A Package Page; ComponentLink3URL: http://www.national.com/packaging/folders/m08a.html
footprint M08A_N (SOIC, 8-Leads, Body 4.9x3.9mm, Pitch 1.27mm, IPC Medium Density)
footprint M08A_L (SOIC, 8-Leads, Body 4.9x3.9mm, Pitch 1.27mm, IPC High Density)
footprint M08A_M (SOIC, 8-Leads, Body 4.9x3.9mm, Pitch 1.27mm, IPC Low Density)
simulation model LMH6551 (SUBCKT)
pins: 1 IN- (in), 2 VCM, 3 V+ (power), 4 OUT+ (out), 5 OUT- (out), 6 V- (power), 7 NC, 8 IN+ (in)

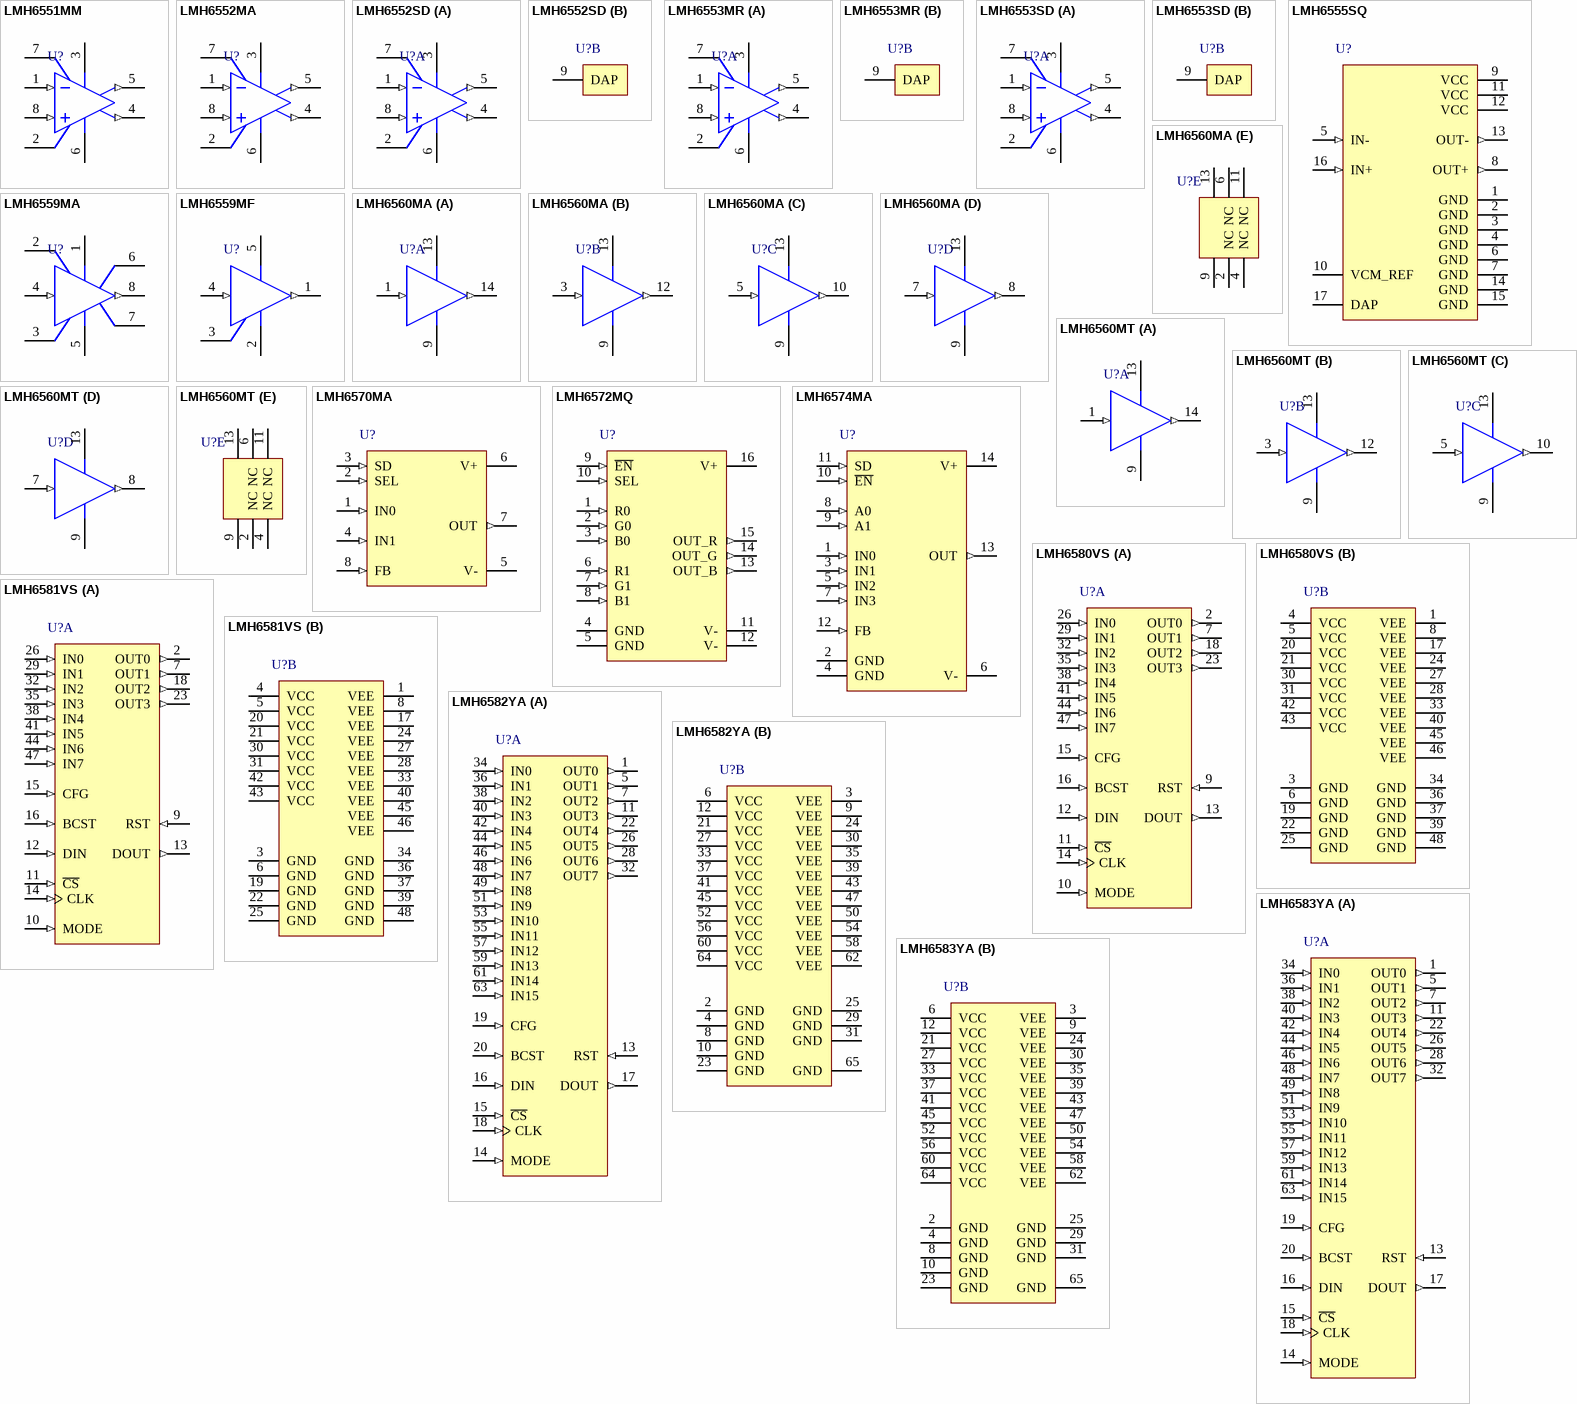
[diagram p25: symbols LMH6551MM to LMH6583YA]

## LMH6551MM
designator U?
Differential, High Speed Op Amp; PartNumber: LMH6551MM; Manufacturer: National Semiconductor; CompType: Amplifiers; PackageTopMarking: ZXTT*AU1A; PowerWise: Y; Published: 4-Dec-2008; LatestRevisionDate: 13-Jan-2009; LatestRevisionNote: Sim Model Added.; DatasheetVersion: Feb-2005; PackageVersion: revF, Apr-2008; PackageReference: MUA08A; Publisher: Altium Limited; PackageDescription: MINI SOIC, .118 x .118 x .034in, 8 Lead, .0256in Pitch; RoHS: O; PinCount: 8; DigiKeyPartNumber: LMH6551MMCT-ND; Code_JEDEC: MO-187-AA; ComponentLink1Description: LMH6551 Datasheet; ComponentLink1URL: http://www.national.com/ds/LM/LMH6551.pdf; ComponentLink2Description: LMH6551 Web Page; ComponentLink2URL: http://www.national.com/pf/LM/LMH6551.html; ComponentLink3Description: MUA08A Package Page; ComponentLink3URL: http://www.national.com/packaging/folders/mua08a.html
footprint MUA08A_N (TSOP, 8-Leads, Body 3x3mm, Pitch 0.65mm, IPC Medium Density)
footprint MUA08A_L (TSOP, 8-Leads, Body 3x3mm, Pitch 0.65mm, IPC High Density)
footprint MUA08A_M (TSOP, 8-Leads, Body 3x3mm, Pitch 0.65mm, IPC Low Density)
simulation model LMH6551 (SUBCKT)
pins: 1 IN- (in), 2 VCM, 3 V+ (power), 4 OUT+ (out), 5 OUT- (out), 6 V- (power), 7 NC, 8 IN+ (in)

## LMH6552MA
designator U?
1.5 GHz Fully Differential Amplifier; PartNumber: LMH6552MA; Manufacturer: National Semiconductor; CompType: Amplifiers; PackageTopMarking: NSZXTT*LMH65*52MA; PowerWise: Y; Published: 4-Dec-2008; LatestRevisionDate: 13-Jan-2009; LatestRevisionNote: Sim Model Added.; DatasheetVersion: Sep-2007; PackageVersion: revL, Sep-2006; PackageReference: M08A; Publisher: Altium Limited; PackageDescription: SOIC Narrow, 4.9 x 3.9 x 1.45mm, 8 Lead, 1.27mm Pitch; RoHS: Y; PinCount: 8; DigiKeyPartNumber: LMH6552MA-ND; Code_JEDEC: MS-012-AA; Code_IPC: SOIC127P600-8; ComponentLink1Description: LMH6552 Datasheet; ComponentLink1URL: http://www.national.com/ds/LM/LMH6552.pdf; ComponentLink2Description: LMH6552 Web Page; ComponentLink2URL: http://www.national.com/pf/LM/LMH6552.html; ComponentLink3Description: M08A Package Page; ComponentLink3URL: http://www.national.com/packaging/folders/m08a.html
footprint M08A_N (SOIC, 8-Leads, Body 4.9x3.9mm, Pitch 1.27mm, IPC Medium Density)
footprint M08A_L (SOIC, 8-Leads, Body 4.9x3.9mm, Pitch 1.27mm, IPC High Density)
footprint M08A_M (SOIC, 8-Leads, Body 4.9x3.9mm, Pitch 1.27mm, IPC Low Density)
simulation model LMH6552 (SUBCKT)
pins: 1 IN- (in), 2 VCM, 3 V+ (power), 4 OUT+ (out), 5 OUT- (out), 6 V- (power), 7 EN, 8 IN+ (in)

## LMH6552SD
designator U?
1.5 GHz Fully Differential Amplifier; PartNumber: LMH6552SD; Manufacturer: National Semiconductor; CompType: Amplifiers; PackageTopMarking: XYTT*6552; PowerWise: Y; Published: 4-Dec-2008; LatestRevisionDate: 13-Jan-2009; LatestRevisionNote: Sim Model Added.; DatasheetVersion: Sep-2007; PackageVersion: revA, Jan-2004; PackageReference: SDA08C; Publisher: Altium Limited; PackageDescription: LLP, Plastic, Dual, 2.5 x 3.0 x 0.8mm Body, 8 Lead, 0.5mm Pitch, No Pullback; RoHS: Y; PinCount: 8; DigiKeyPartNumber: LMH6552SDEVAL-ND; ComponentLink1Description: LMH6552 Datasheet; ComponentLink1URL: http://www.national.com/ds/LM/LMH6552.pdf; ComponentLink2Description: LMH6552 Web Page; ComponentLink2URL: http://www.national.com/pf/LM/LMH6552.html; ComponentLink3Description: SDA08C Package Page; ComponentLink3URL: http://www.national.com/packaging/folders/sda08c.html
footprint SDA08C (SON, 8-Leads, Body 2.5x3mm, Pitch 0.5mm, NSC Recommended)
simulation model LMH6552 (SUBCKT)
part A pins: 1 IN- (in), 2 VCM, 3 V+ (power), 4 OUT+ (out), 5 OUT- (out), 6 V- (power), 7 EN, 8 IN+ (in)
part B pins: 9 DAP

## LMH6553MR
designator U?
900 MHz Fully Differential Amplifier with Output Limiting Clamp; PartNumber: LMH6553; Manufacturer: National Semiconductor; CompType: Amplifiers; PackageTopMarking: NSXYTT*LMH65*53MR; PowerWise: Y; Published: 4-Dec-2008; LatestRevisionDate: 13-Jan-2009; LatestRevisionNote: Sim Model Added.; DatasheetVersion: Sep-2008; PackageVersion: revB, Dec-2007; PackageReference: MRA08B; Publisher: Altium Limited; PackageDescription: Molded, PSOP .193 x .154 x .058in, 8 Lead, .050in Pitch, Large DAP; RoHS: Y; PinCount: 8; DigiKeyPartNumber: LMH6553MRE-ND; Code_JEDEC: MS-012-AA; ComponentLink1Description: LMH6553 Datasheet; ComponentLink1URL: http://www.national.com/ds/LM/LMH6553.pdf; ComponentLink2Description: LMH6553 Web Page; ComponentLink2URL: http://www.national.com/pf/LM/LMH6553.html; ComponentLink3Description: MRA08B Package Page; ComponentLink3URL: http://www.national.com/packaging/folders/mra08b.html
footprint MRA08B_N (SOIC, 8-Leads, Body 4.9x3.9mm, Pitch 1.27mm, Exposed Pad, IPC Medium Density)
footprint MRA08B_L (SOIC, 8-Leads, Body 4.9x3.9mm, Pitch 1.27mm, Exposed Pad, IPC High Density)
footprint MRA08B_M (SOIC, 8-Leads, Body 4.9x3.9mm, Pitch 1.27mm, Exposed Pad, IPC Low Density)
simulation model LMH6553 (SUBCKT)
part A pins: 1 IN- (in), 2 VCM, 3 V+ (power), 4 OUT+ (out), 5 OUT- (out), 6 V- (power), 7 VCLAMP, 8 IN+ (in)
part B pins: 9 DAP

## LMH6553SD
designator U?
900 MHz Fully Differential Amplifier with Output Limiting Clamp; PartNumber: LMH6553; Manufacturer: National Semiconductor; CompType: Amplifiers; PackageTopMarking: XYTT*6553; PowerWise: Y; Published: 4-Dec-2008; LatestRevisionDate: 13-Jan-2009; LatestRevisionNote: Sim Model Added.; DatasheetVersion: Sep-2008; PackageVersion: revA, Jan-2004; PackageReference: SDA08C; Publisher: Altium Limited; PackageDescription: LLP, Plastic, Dual, 2.5 x 3.0 x 0.8mm Body, 8 Lead, 0.5mm Pitch, No Pullback; RoHS: Y; PinCount: 8; DigiKeyPartNumber: LMH6553SDECT-ND; ComponentLink1Description: LMH6553 Datasheet; ComponentLink1URL: http://www.national.com/ds/LM/LMH6553.pdf; ComponentLink2Description: LMH6553 Web Page; ComponentLink2URL: http://www.national.com/pf/LM/LMH6553.html; ComponentLink3Description: SDA08C Package Page; ComponentLink3URL: http://www.national.com/packaging/folders/sda08c.html
footprint SDA08C (SON, 8-Leads, Body 2.5x3mm, Pitch 0.5mm, NSC Recommended)
simulation model LMH6553 (SUBCKT)
part A pins: 1 IN- (in), 2 VCM, 3 V+ (power), 4 OUT+ (out), 5 OUT- (out), 6 V- (power), 7 VCLAMP, 8 IN+ (in)
part B pins: 9 DAP

## LMH6555SQ
designator U?
Low Distortion 1.2 GHz Differential Driver; PartNumber: LMH6555SQ; Manufacturer: National Semiconductor; CompType: Amplifiers; PackageTopMarking: NS*UZXYTT*L6555SQ; PowerWise: Y; Published: 4-Dec-2008; LatestRevisionDate: 13-Jan-2009; LatestRevisionNote: Sim Model Added.; DatasheetVersion: Dec-2007; PackageVersion: revA, Oct-2003; PackageReference: SQA16A; Publisher: Altium Limited; PackageDescription: LLP, Plastic, Quad, 4 x 4 x 0.8mm Body, 16 Lead, 0.5mm Pitch, No Pullback; RoHS: Y; PinCount: 16; DigiKeyPartNumber: LMH6555SQCT-ND; ComponentLink1Description: LMH6555 Datasheet; ComponentLink1URL: http://www.national.com/ds/LM/LMH6555.pdf; ComponentLink2Description: LMH6555 Web Page; ComponentLink2URL: http://www.national.com/pf/LM/LMH6555.html; ComponentLink3Description: SQA16A Package Page; ComponentLink3URL: http://www.national.com/packaging/folders/sqa16a.html
footprint SQA16A (QFN, 16-Leads, Body 4x4mm, Pitch 0.5mm, NSC Recommended)
simulation model LMH6555 (SUBCKT)
pins: 1 GND (power), 2 GND (power), 3 GND (power), 4 GND (power), 5 IN- (in), 6 GND (power), 7 GND (power), 8 OUT+ (out), 9 VCC (power), 10 VCM_REF, 11 VCC (power), 12 VCC (power), 13 OUT- (out), 14 GND (power), 15 GND (power), 16 IN+ (in), 17 DAP

## LMH6559MA
designator U?
High-Speed, Closed-Loop Buffer; PartNumber: LMH6559MA; Manufacturer: National Semiconductor; CompType: Amplifiers; PackageTopMarking: NSZXTT*LMH65*59MA; PowerWise: N; Published: 4-Dec-2008; LatestRevisionDate: 13-Jan-2009; LatestRevisionNote: Sim Model Added.; DatasheetVersion: Jul-2006; PackageVersion: revL, Sep-2006; PackageReference: M08A; Publisher: Altium Limited; PackageDescription: SOIC Narrow, 4.9 x 3.9 x 1.45mm, 8 Lead, 1.27mm Pitch; RoHS: O; PinCount: 8; DigiKeyPartNumber: CLC730245-ND; Code_JEDEC: MS-012-AA; Code_IPC: SOIC127P600-8; ComponentLink1Description: LMH6559 Datasheet; ComponentLink1URL: http://www.national.com/ds/LM/LMH6559.pdf; ComponentLink2Description: LMH6559 Web Page; ComponentLink2URL: http://www.national.com/pf/LM/LMH6559.html; ComponentLink3Description: M08A Package Page; ComponentLink3URL: http://www.national.com/packaging/folders/m08a.html
footprint M08A_N (SOIC, 8-Leads, Body 4.9x3.9mm, Pitch 1.27mm, IPC Medium Density)
footprint M08A_L (SOIC, 8-Leads, Body 4.9x3.9mm, Pitch 1.27mm, IPC High Density)
footprint M08A_M (SOIC, 8-Leads, Body 4.9x3.9mm, Pitch 1.27mm, IPC Low Density)
simulation model LMH6559 (SUBCKT)
pins: 1 VCC (power), 2 NC, 3 NC, 4 IN (in), 5 VEE (power), 6 NC, 7 NC, 8 OUT (out)

## LMH6559MF
designator U?
High-Speed, Closed-Loop Buffer; PartNumber: LMH6559MF; Manufacturer: National Semiconductor; CompType: Amplifiers; PackageTopMarking: B05A*XTT; PowerWise: N; Published: 4-Dec-2008; LatestRevisionDate: 13-Jan-2009; LatestRevisionNote: Sim Model Added.; DatasheetVersion: Jul-2006; PackageVersion: revD, Aug-2008; PackageReference: MF05A; Publisher: Altium Limited; PackageDescription: Molded SOT-23, .115 x .063 x .040 in Body, 5 Lead, .0375 in Pitch; RoHS: O; PinCount: 5; DigiKeyPartNumber: LMH6559MFCT-ND; Code_IPC: SOT23-5; ComponentLink1Description: LMH6559 Datasheet; ComponentLink1URL: http://www.national.com/ds/LM/LMH6559.pdf; ComponentLink2Description: LMH6559 Web Page; ComponentLink2URL: http://www.national.com/pf/LM/LMH6559.html; ComponentLink3Description: MF05A Package Page; ComponentLink3URL: http://www.national.com/packaging/folders/mf05a.html
footprint MF05A_N (SOT23, 5-Leads, Body 2.9x1.6mm, Pitch 0.95mm, Lead Span 2.8mm, IPC Medium Density)
footprint MF05A_L (SOT23, 5-Leads, Body 2.9x1.6mm, Pitch 0.95mm, Lead Span 2.8mm, IPC High Density)
footprint MF05A_M (SOT23, 5-Leads, Body 2.9x1.6mm, Pitch 0.95mm, Lead Span 2.8mm, IPC Low Density)
simulation model LMH6559 (SUBCKT)
pins: 1 OUT (out), 2 VEE (power), 3 NC, 4 IN (in), 5 VCC (power)

## LMH6560MA
designator U?
Quad, High-Speed, Closed-Loop Buffer; PartNumber: LMH6560MA; Manufacturer: National Semiconductor; CompType: Amplifiers; PackageTopMarking: NSUZXYTT*LMH65*60MA; PowerWise: N; Published: 4-Dec-2008; DatasheetVersion: Dec-2004; PackageVersion: revJ, Jan-1996; PackageReference: M14A; Publisher: Altium Limited; PackageDescription: Molded Package S.O., .150in Wide, 14 Lead; RoHS: O; PinCount: 14; DigiKeyPartNumber: CLC730145-ND; Code_JEDEC: MS-012AB; Code_IPC: SOIC127P600-14; ComponentLink1Description: LMH6560 Datasheet; ComponentLink1URL: http://www.national.com/ds/LM/LMH6560.pdf; ComponentLink2Description: LMH6560 Web Page; ComponentLink2URL: http://www.national.com/pf/LM/LMH6560.html; ComponentLink3Description: M14A Package Page; ComponentLink3URL: http://www.national.com/packaging/folders/m14a.html
footprint M14A_N (SOIC, 14-Leads, Body 8.6x3.9mm, Pitch 1.27mm, IPC Medium Density)
footprint M14A_L (SOIC, 14-Leads, Body 8.6x3.9mm, Pitch 1.27mm, IPC High Density)
footprint M14A_M (SOIC, 14-Leads, Body 8.6x3.9mm, Pitch 1.27mm, IPC Low Density)
pins on every part: 9 VEE (power), 13 VCC (power)
part A pins: 1 IN1 (in), 14 OUT1 (out)
part B pins: 3 IN2 (in), 12 OUT2 (out)
part C pins: 5 IN3 (in), 10 OUT3 (out)
part D pins: 7 IN4 (in), 8 OUT4 (out)
part E pins: 2 NC, 4 NC, 6 NC, 11 NC

## LMH6560MT
designator U?
Quad, High-Speed, Closed-Loop Buffer; PartNumber: LMH6560MT; Manufacturer: National Semiconductor; CompType: Amplifiers; PackageTopMarking: NSZXYTT*LMH65*60MT; PowerWise: N; Published: 4-Dec-2008; DatasheetVersion: Dec-2004; PackageVersion: revD, Jun-2003; PackageReference: MTC14; Publisher: Altium Limited; PackageDescription: Molded TSSOP, JEDEC, 5 x 4.4 x 0.9mm Body, 14 Lead, 0.65mm Pitch; RoHS: Y; PinCount: 14; DigiKeyPartNumber: CLC730132-ND; Code_JEDEC: MO-153-AB-1; ComponentLink1Description: LMH6560 Datasheet; ComponentLink1URL: http://www.national.com/ds/LM/LMH6560.pdf; ComponentLink2Description: LMH6560 Web Page; ComponentLink2URL: http://www.national.com/pf/LM/LMH6560.html; ComponentLink3Description: MTC14 Package Page; ComponentLink3URL: http://www.national.com/packaging/folders/mtc14.html
footprint MTC14_N (TSOP, 14-Leads, Body 5x4.4mm, Pitch 0.65mm, IPC Medium Density)
footprint MTC14_L (TSOP, 14-Leads, Body 5x4.4mm, Pitch 0.65mm, IPC High Density)
footprint MTC14_M (TSOP, 14-Leads, Body 5x4.4mm, Pitch 0.65mm, IPC Low Density)
pins on every part: 9 VEE (power), 13 VCC (power)
part A pins: 1 IN1 (in), 14 OUT1 (out)
part B pins: 3 IN2 (in), 12 OUT2 (out)
part C pins: 5 IN3 (in), 10 OUT3 (out)
part D pins: 7 IN4 (in), 8 OUT4 (out)
part E pins: 2 NC, 4 NC, 6 NC, 11 NC

## LMH6570MA
designator U?
2:1 High Speed Video Multiplexer; PartNumber: LMH6570MA; Manufacturer: National Semiconductor; CompType: Amplifiers; PackageTopMarking: NSZXTT*LMH65*70MA; PowerWise: N; Published: 4-Dec-2008; DatasheetVersion: May-2005; PackageVersion: revL, Sep-2006; PackageReference: M08A; Publisher: Altium Limited; PackageDescription: SOIC Narrow, 4.9 x 3.9 x 1.45mm, 8 Lead, 1.27mm Pitch; RoHS: Y; PinCount: 8; DigiKeyPartNumber: LMH6570MA-ND; Code_JEDEC: MS-012-AA; Code_IPC: SOIC127P600-8; ComponentLink1Description: LMH6570 Datasheet; ComponentLink1URL: http://www.national.com/ds/LM/LMH6570.pdf; ComponentLink2Description: LMH6570 Web Page; ComponentLink2URL: http://www.national.com/pf/LM/LMH6570.html; ComponentLink3Description: M08A Package Page; ComponentLink3URL: http://www.national.com/packaging/folders/m08a.html
footprint M08A_N (SOIC, 8-Leads, Body 4.9x3.9mm, Pitch 1.27mm, IPC Medium Density)
footprint M08A_L (SOIC, 8-Leads, Body 4.9x3.9mm, Pitch 1.27mm, IPC High Density)
footprint M08A_M (SOIC, 8-Leads, Body 4.9x3.9mm, Pitch 1.27mm, IPC Low Density)
pins: 1 IN0 (in), 2 SEL (in), 3 SD (in), 4 IN1 (in), 5 V- (power), 6 V+ (power), 7 OUT (out), 8 FB (in)

## LMH6572MQ
designator U?
Triple 2:1 Video Multiplexer; PartNumber: LMH6572MQ; Manufacturer: National Semiconductor; CompType: Amplifiers; PackageTopMarking: NSXYTT*LH65*72MQ; PowerWise: N; Published: 4-Dec-2008; DatasheetVersion: Jun-2005; PackageVersion: revB, Jan-2005; PackageReference: MQA16; Publisher: Altium Limited; PackageDescription: SSOP, .150in Body Width, .025in Pitch, 16 Lead; RoHS: Y; PinCount: 16; DigiKeyPartNumber: LMH6572MQ-ND; Code_JEDEC: MO-137-AB; ComponentLink1Description: LMH6572 Datasheet; ComponentLink1URL: http://www.national.com/ds/LM/LMH6572.pdf; ComponentLink2Description: LMH6572 Web Page; ComponentLink2URL: http://www.national.com/pf/LM/LMH6572.html; ComponentLink3Description: MQA16 Package Page; ComponentLink3URL: http://www.national.com/packaging/folders/mqa16.html
footprint MQA16_N (SOP, 16-Leads, Body 4.9x3.9mm, Pitch 0.635mm, IPC Medium Density)
footprint MQA16_L (SOP, 16-Leads, Body 4.9x3.9mm, Pitch 0.635mm, IPC High Density)
footprint MQA16_M (SOP, 16-Leads, Body 4.9x3.9mm, Pitch 0.635mm, IPC Low Density)
pins: 1 R0 (in), 2 G0 (in), 3 B0 (in), 4 GND (power), 5 GND (power), 6 R1 (in), 7 G1 (in), 8 B1 (in), 9 ~{EN} (in), 10 SEL (in), 11 V- (power), 12 V- (power), 13 OUT_B (out), 14 OUT_G (out), 15 OUT_R (out), 16 V+ (power)

## LMH6574MA
designator U?
4:1 High Speed Video Multiplexer; PartNumber: LMH6574MA; Manufacturer: National Semiconductor; CompType: Amplifiers; PackageTopMarking: NSUZXYTT*LMH65*74MA; PowerWise: N; Published: 4-Dec-2008; DatasheetVersion: Sep-2005; PackageVersion: revJ, Jan-1996; PackageReference: M14A; Publisher: Altium Limited; PackageDescription: Molded Package S.O., .150in Wide, 14 Lead; RoHS: O; PinCount: 14; DigiKeyPartNumber: LMH6574MA-ND; Code_JEDEC: MS-012AB; Code_IPC: SOIC127P600-14; ComponentLink1Description: LMH6574 Datasheet; ComponentLink1URL: http://www.national.com/ds/LM/LMH6574.pdf; ComponentLink2Description: LMH6574 Web Page; ComponentLink2URL: http://www.national.com/pf/LM/LMH6574.html; ComponentLink3Description: M14A Package Page; ComponentLink3URL: http://www.national.com/packaging/folders/m14a.html
footprint M14A_N (SOIC, 14-Leads, Body 8.6x3.9mm, Pitch 1.27mm, IPC Medium Density)
footprint M14A_L (SOIC, 14-Leads, Body 8.6x3.9mm, Pitch 1.27mm, IPC High Density)
footprint M14A_M (SOIC, 14-Leads, Body 8.6x3.9mm, Pitch 1.27mm, IPC Low Density)
pins: 1 IN0 (in), 2 GND (power), 3 IN1 (in), 4 GND (power), 5 IN2 (in), 6 V- (power), 7 IN3 (in), 8 A0 (in), 9 A1 (in), 10 ~{EN} (in), 11 SD (in), 12 FB (in), 13 OUT (out), 14 V+ (power)

## LMH6580VS
designator U?
8x4 500 MHz Analog Crosspoint Switch, Gain of 1, Gain of 2; PartNumber: LMH6580VS; Manufacturer: National Semiconductor; CompType: Amplifiers; PackageTopMarking: NSUZXYTT*LMH6580*VS; PowerWise: N; Published: 4-Dec-2008; DatasheetVersion: Sep-2007; PackageVersion: revA, Apr-2000; PackageReference: VBC48A; Publisher: Altium Limited; PackageDescription: TQFP, Jedec Metric, 7 x 7 x 1mm, 48 Lead, 0.5mm Pitch; RoHS: Y; PinCount: 48; DigiKeyPartNumber: LMH6580VS-ND; Code_JEDEC: MS-026-ABC; ComponentLink1Description: LMH6580 Datasheet; ComponentLink1URL: http://www.national.com/ds/LM/LMH6580.pdf; ComponentLink2Description: LMH6580 Web Page; ComponentLink2URL: http://www.national.com/pf/LM/LMH6580.html; ComponentLink3Description: VBC48A Package Page; ComponentLink3URL: http://www.national.com/packaging/folders/vbc48a.html
footprint VBC48A_N (Thin QFP, 48-Leads, Body 7x7mm, Pitch 0.5mm, IPC Medium Density)
footprint VBC48A_L (Thin QFP, 48-Leads, Body 7x7mm, Pitch 0.5mm, IPC High Density)
footprint VBC48A_M (Thin QFP, 48-Leads, Body 7x7mm, Pitch 0.5mm, IPC Low Density)
part A pins: 2 OUT0 (out), 7 OUT1 (out), 9 RST (in), 10 MODE (in), 11 ~{CS} (in), 12 DIN (in), 13 DOUT (out), 14 CLK (in), 15 CFG (in), 16 BCST (in), 18 OUT2 (out), 23 OUT3 (out), 26 IN0 (in), 29 IN1 (in), 32 IN2 (in), 35 IN3 (in), 38 IN4 (in), 41 IN5 (in), 44 IN6 (in), 47 IN7 (in)
part B pins: 1 VEE (power), 3 GND (power), 4 VCC (power), 5 VCC (power), 6 GND (power), 8 VEE (power), 17 VEE (power), 19 GND (power), 20 VCC (power), 21 VCC (power), 22 GND (power), 24 VEE (power), 25 GND (power), 27 VEE (power), 28 VEE (power), 30 VCC (power), 31 VCC (power), 33 VEE (power), 34 GND (power), 36 GND (power), 37 GND (power), 39 GND (power), 40 VEE (power), 42 VCC (power), 43 VCC (power), 45 VEE (power), 46 VEE (power), 48 GND (power)